# Altium integrated library NSC Temperature Sensor.IntLib: 347 symbols (part 2 of 9)
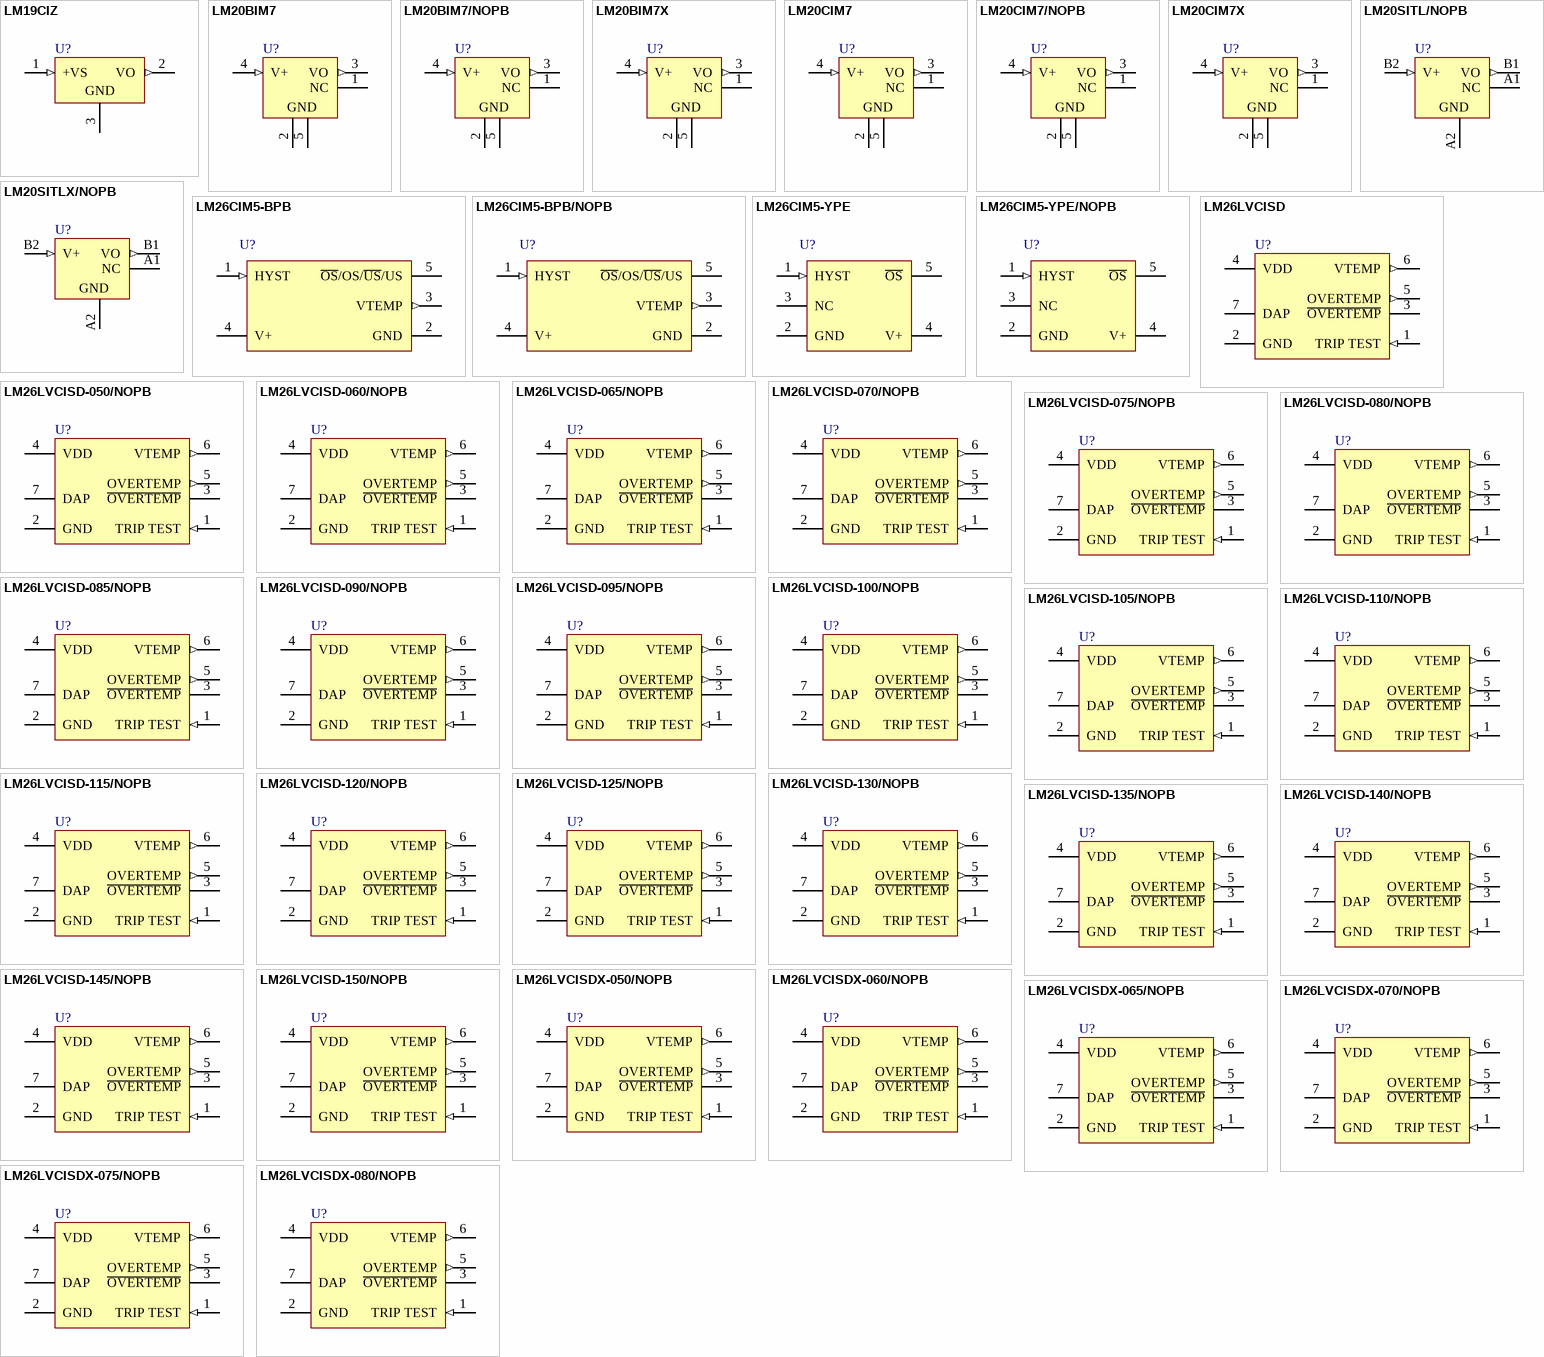
[diagram p10: symbols LM19CIZ to LM26LVCISDX-080/NOPB]

## LM26LVCISDX-080/NOPB
designator U?
1.6V Factory Preset Temperature Switch and Temperature Sensor, 6-pin LLP, Pb-Free; PartNumber: LM26LVCISDX-080/NOPB; Manufacturer: National Semiconductor; PackageTopMarking: XTT*080; PowerWise: Y; CompType: Temp Sensor IC; Published: 1-Mar-2010; DatasheetVersion: May-2008; PackageVersion: revA, Nov-2003; PackageReference: SDB06A; Publisher: Altium Limited; PackageDescription: LLP, Plastic, Dual, 2.2 x 2.5 x 0.8mm Body, 6 Lead, 0.65mm Pitch, No Pullback; Supplier 1: Digi-Key; Supplier Part Number 1: LM26LVCISDX-080-ND; RoHS: Y; PinCount: 6; ComponentLink1Description: LM26LV Datasheet; ComponentLink1URL: http://www.national.com/ds/LM/LM26LV.pdf; ComponentLink2Description: LM26LV Web Page; ComponentLink2URL: http://www.national.com/pf/LM/LM26LV.html; ComponentLink3Description: SDB06A Package Page; ComponentLink3URL: http://www.national.com/packaging/folders/sdb06a.html
footprint SDB06A (SON, 6-Leads, Body 2.2x2.5mm, Pitch 0.65mm, NSC Recommended (SC-70 Land))
pins: 1 TRIP TEST (in), 2 GND (power) "Ground", 3 ~{OVERTEMP} (oc), 4 VDD (power), 5 OVERTEMP (out), 6 VTEMP (out), 7 DAP (power) "Ground"

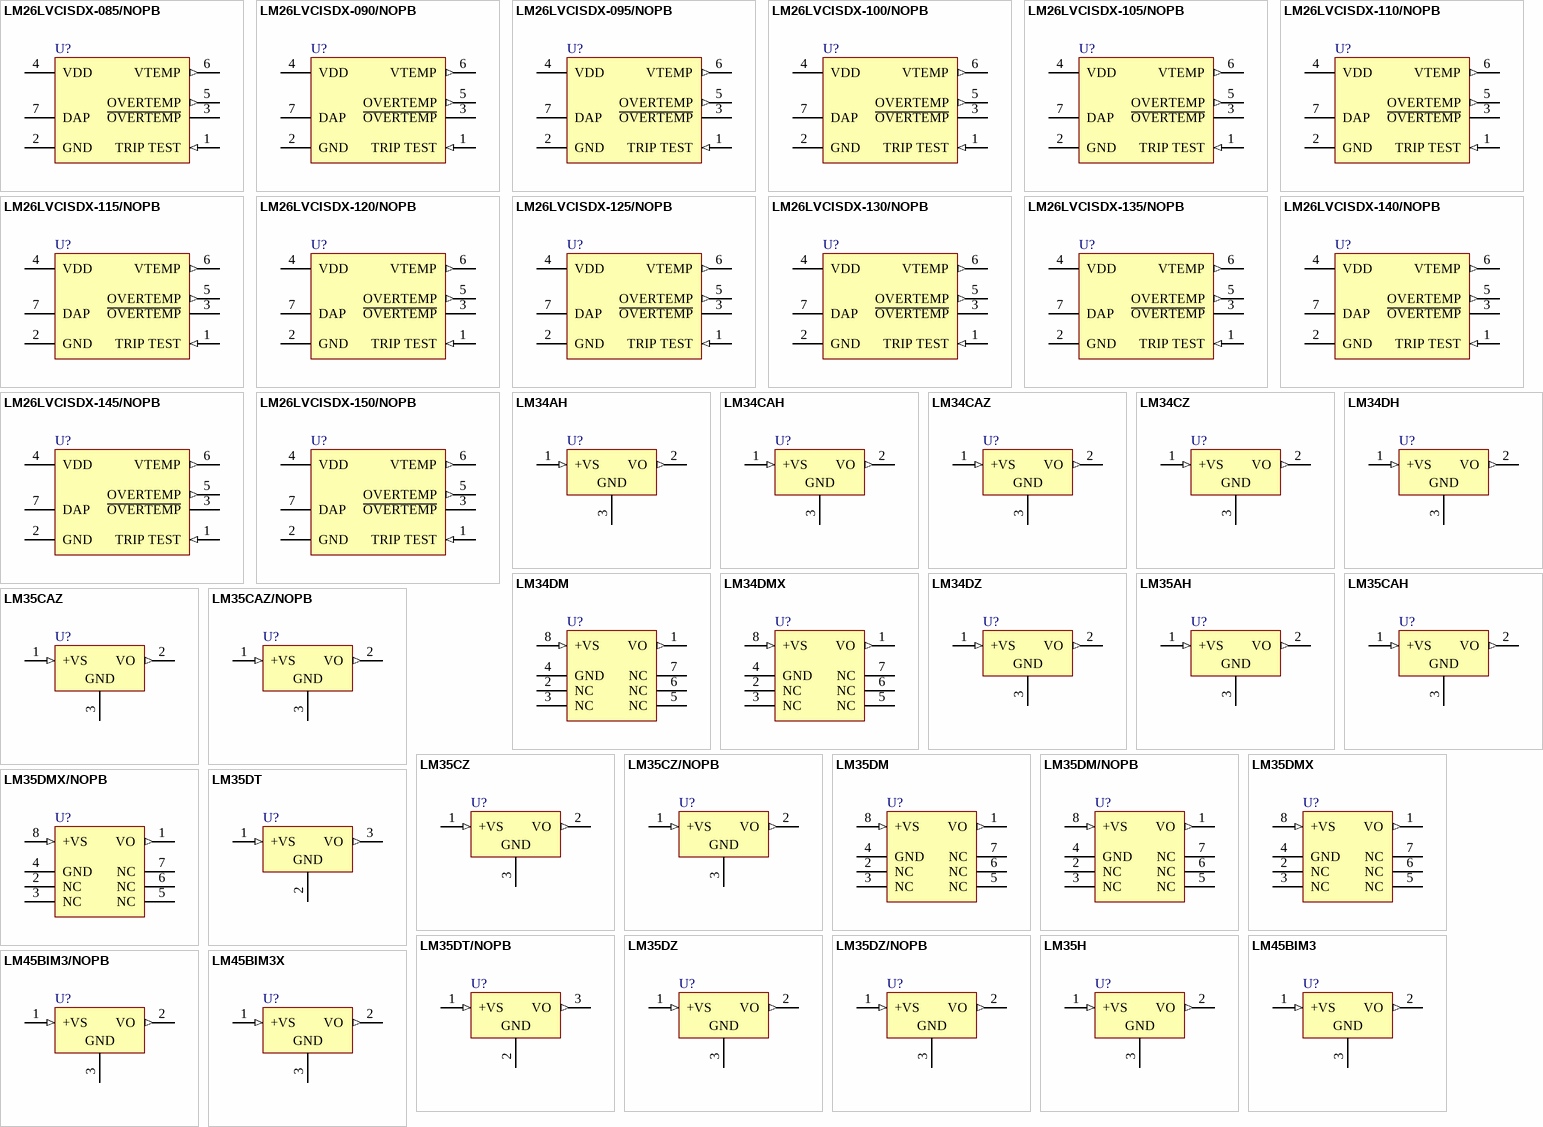
[diagram p1: symbols LM26LVCISDX-085/NOPB to LM45BIM3X]

## LM26LVCISDX-085/NOPB
designator U?
1.6V Factory Preset Temperature Switch and Temperature Sensor, 6-pin LLP, Pb-Free; PartNumber: LM26LVCISDX-085/NOPB; Manufacturer: National Semiconductor; PackageTopMarking: XTT*085; PowerWise: Y; CompType: Temp Sensor IC; Published: 1-Mar-2010; DatasheetVersion: May-2008; PackageVersion: revA, Nov-2003; PackageReference: SDB06A; Publisher: Altium Limited; PackageDescription: LLP, Plastic, Dual, 2.2 x 2.5 x 0.8mm Body, 6 Lead, 0.65mm Pitch, No Pullback; Supplier 1: Digi-Key; Supplier Part Number 1: LM26LVCISDX-085-ND; RoHS: Y; PinCount: 6; ComponentLink1Description: LM26LV Datasheet; ComponentLink1URL: http://www.national.com/ds/LM/LM26LV.pdf; ComponentLink2Description: LM26LV Web Page; ComponentLink2URL: http://www.national.com/pf/LM/LM26LV.html; ComponentLink3Description: SDB06A Package Page; ComponentLink3URL: http://www.national.com/packaging/folders/sdb06a.html
footprint SDB06A (SON, 6-Leads, Body 2.2x2.5mm, Pitch 0.65mm, NSC Recommended (SC-70 Land))
pins: 1 TRIP TEST (in), 2 GND (power) "Ground", 3 ~{OVERTEMP} (oc), 4 VDD (power), 5 OVERTEMP (out), 6 VTEMP (out), 7 DAP (power) "Ground"

## LM26LVCISDX-090/NOPB
designator U?
1.6V Factory Preset Temperature Switch and Temperature Sensor, 6-pin LLP, Pb-Free; PartNumber: LM26LVCISDX-090/NOPB; Manufacturer: National Semiconductor; PackageTopMarking: XTT*090; PowerWise: Y; CompType: Temp Sensor IC; Published: 1-Mar-2010; DatasheetVersion: May-2008; PackageVersion: revA, Nov-2003; PackageReference: SDB06A; Publisher: Altium Limited; PackageDescription: LLP, Plastic, Dual, 2.2 x 2.5 x 0.8mm Body, 6 Lead, 0.65mm Pitch, No Pullback; Supplier 1: Digi-Key; Supplier Part Number 1: LM26LVCISDX-090-ND; RoHS: Y; PinCount: 6; ComponentLink1Description: LM26LV Datasheet; ComponentLink1URL: http://www.national.com/ds/LM/LM26LV.pdf; ComponentLink2Description: LM26LV Web Page; ComponentLink2URL: http://www.national.com/pf/LM/LM26LV.html; ComponentLink3Description: SDB06A Package Page; ComponentLink3URL: http://www.national.com/packaging/folders/sdb06a.html
footprint SDB06A (SON, 6-Leads, Body 2.2x2.5mm, Pitch 0.65mm, NSC Recommended (SC-70 Land))
pins: 1 TRIP TEST (in), 2 GND (power) "Ground", 3 ~{OVERTEMP} (oc), 4 VDD (power), 5 OVERTEMP (out), 6 VTEMP (out), 7 DAP (power) "Ground"

## LM26LVCISDX-095/NOPB
designator U?
1.6V Factory Preset Temperature Switch and Temperature Sensor, 6-pin LLP, Pb-Free; PartNumber: LM26LVCISDX-095/NOPB; Manufacturer: National Semiconductor; PackageTopMarking: XTT*095; PowerWise: Y; CompType: Temp Sensor IC; Published: 1-Mar-2010; DatasheetVersion: May-2008; PackageVersion: revA, Nov-2003; PackageReference: SDB06A; Publisher: Altium Limited; PackageDescription: LLP, Plastic, Dual, 2.2 x 2.5 x 0.8mm Body, 6 Lead, 0.65mm Pitch, No Pullback; Supplier 1: Digi-Key; Supplier Part Number 1: LM26LVCISDX-095-ND; RoHS: Y; PinCount: 6; ComponentLink1Description: LM26LV Datasheet; ComponentLink1URL: http://www.national.com/ds/LM/LM26LV.pdf; ComponentLink2Description: LM26LV Web Page; ComponentLink2URL: http://www.national.com/pf/LM/LM26LV.html; ComponentLink3Description: SDB06A Package Page; ComponentLink3URL: http://www.national.com/packaging/folders/sdb06a.html
footprint SDB06A (SON, 6-Leads, Body 2.2x2.5mm, Pitch 0.65mm, NSC Recommended (SC-70 Land))
pins: 1 TRIP TEST (in), 2 GND (power) "Ground", 3 ~{OVERTEMP} (oc), 4 VDD (power), 5 OVERTEMP (out), 6 VTEMP (out), 7 DAP (power) "Ground"

## LM26LVCISDX-100/NOPB
designator U?
1.6V Factory Preset Temperature Switch and Temperature Sensor, 6-pin LLP, Pb-Free; PartNumber: LM26LVCISDX-100/NOPB; Manufacturer: National Semiconductor; PackageTopMarking: XTT*100; PowerWise: Y; CompType: Temp Sensor IC; Published: 1-Mar-2010; DatasheetVersion: May-2008; PackageVersion: revA, Nov-2003; PackageReference: SDB06A; Publisher: Altium Limited; PackageDescription: LLP, Plastic, Dual, 2.2 x 2.5 x 0.8mm Body, 6 Lead, 0.65mm Pitch, No Pullback; Supplier 1: Digi-Key; Supplier Part Number 1: LM26LVCISDX-100-ND; RoHS: Y; PinCount: 6; ComponentLink1Description: LM26LV Datasheet; ComponentLink1URL: http://www.national.com/ds/LM/LM26LV.pdf; ComponentLink2Description: LM26LV Web Page; ComponentLink2URL: http://www.national.com/pf/LM/LM26LV.html; ComponentLink3Description: SDB06A Package Page; ComponentLink3URL: http://www.national.com/packaging/folders/sdb06a.html
footprint SDB06A (SON, 6-Leads, Body 2.2x2.5mm, Pitch 0.65mm, NSC Recommended (SC-70 Land))
pins: 1 TRIP TEST (in), 2 GND (power) "Ground", 3 ~{OVERTEMP} (oc), 4 VDD (power), 5 OVERTEMP (out), 6 VTEMP (out), 7 DAP (power) "Ground"

## LM26LVCISDX-105/NOPB
designator U?
1.6V Factory Preset Temperature Switch and Temperature Sensor, 6-pin LLP, Pb-Free; PartNumber: LM26LVCISDX-105/NOPB; Manufacturer: National Semiconductor; PackageTopMarking: XTT*105; PowerWise: Y; CompType: Temp Sensor IC; Published: 1-Mar-2010; DatasheetVersion: May-2008; PackageVersion: revA, Nov-2003; PackageReference: SDB06A; Publisher: Altium Limited; PackageDescription: LLP, Plastic, Dual, 2.2 x 2.5 x 0.8mm Body, 6 Lead, 0.65mm Pitch, No Pullback; Supplier 1: Digi-Key; Supplier Part Number 1: LM26LVCISDX-105-ND; RoHS: Y; PinCount: 6; ComponentLink1Description: LM26LV Datasheet; ComponentLink1URL: http://www.national.com/ds/LM/LM26LV.pdf; ComponentLink2Description: LM26LV Web Page; ComponentLink2URL: http://www.national.com/pf/LM/LM26LV.html; ComponentLink3Description: SDB06A Package Page; ComponentLink3URL: http://www.national.com/packaging/folders/sdb06a.html
footprint SDB06A (SON, 6-Leads, Body 2.2x2.5mm, Pitch 0.65mm, NSC Recommended (SC-70 Land))
pins: 1 TRIP TEST (in), 2 GND (power) "Ground", 3 ~{OVERTEMP} (oc), 4 VDD (power), 5 OVERTEMP (out), 6 VTEMP (out), 7 DAP (power) "Ground"

## LM26LVCISDX-110/NOPB
designator U?
1.6V Factory Preset Temperature Switch and Temperature Sensor, 6-pin LLP, Pb-Free; PartNumber: LM26LVCISDX-110/NOPB; Manufacturer: National Semiconductor; PackageTopMarking: XTT*110; PowerWise: Y; CompType: Temp Sensor IC; Published: 1-Mar-2010; DatasheetVersion: May-2008; PackageVersion: revA, Nov-2003; PackageReference: SDB06A; Publisher: Altium Limited; PackageDescription: LLP, Plastic, Dual, 2.2 x 2.5 x 0.8mm Body, 6 Lead, 0.65mm Pitch, No Pullback; Supplier 1: Digi-Key; Supplier Part Number 1: LM26LVCISDX-110-ND; RoHS: Y; PinCount: 6; ComponentLink1Description: LM26LV Datasheet; ComponentLink1URL: http://www.national.com/ds/LM/LM26LV.pdf; ComponentLink2Description: LM26LV Web Page; ComponentLink2URL: http://www.national.com/pf/LM/LM26LV.html; ComponentLink3Description: SDB06A Package Page; ComponentLink3URL: http://www.national.com/packaging/folders/sdb06a.html
footprint SDB06A (SON, 6-Leads, Body 2.2x2.5mm, Pitch 0.65mm, NSC Recommended (SC-70 Land))
pins: 1 TRIP TEST (in), 2 GND (power) "Ground", 3 ~{OVERTEMP} (oc), 4 VDD (power), 5 OVERTEMP (out), 6 VTEMP (out), 7 DAP (power) "Ground"

## LM26LVCISDX-115/NOPB
designator U?
1.6V Factory Preset Temperature Switch and Temperature Sensor, 6-pin LLP, Pb-Free; PartNumber: LM26LVCISDX-115/NOPB; Manufacturer: National Semiconductor; PackageTopMarking: XTT*115; PowerWise: Y; CompType: Temp Sensor IC; Published: 1-Mar-2010; DatasheetVersion: May-2008; PackageVersion: revA, Nov-2003; PackageReference: SDB06A; Publisher: Altium Limited; PackageDescription: LLP, Plastic, Dual, 2.2 x 2.5 x 0.8mm Body, 6 Lead, 0.65mm Pitch, No Pullback; Supplier 1: Digi-Key; Supplier Part Number 1: LM26LVCISDX-115-ND; RoHS: Y; PinCount: 6; ComponentLink1Description: LM26LV Datasheet; ComponentLink1URL: http://www.national.com/ds/LM/LM26LV.pdf; ComponentLink2Description: LM26LV Web Page; ComponentLink2URL: http://www.national.com/pf/LM/LM26LV.html; ComponentLink3Description: SDB06A Package Page; ComponentLink3URL: http://www.national.com/packaging/folders/sdb06a.html
footprint SDB06A (SON, 6-Leads, Body 2.2x2.5mm, Pitch 0.65mm, NSC Recommended (SC-70 Land))
pins: 1 TRIP TEST (in), 2 GND (power) "Ground", 3 ~{OVERTEMP} (oc), 4 VDD (power), 5 OVERTEMP (out), 6 VTEMP (out), 7 DAP (power) "Ground"

## LM26LVCISDX-120/NOPB
designator U?
1.6V Factory Preset Temperature Switch and Temperature Sensor, 6-pin LLP, Pb-Free; PartNumber: LM26LVCISDX-120/NOPB; Manufacturer: National Semiconductor; PackageTopMarking: XTT*120; PowerWise: Y; CompType: Temp Sensor IC; Published: 1-Mar-2010; DatasheetVersion: May-2008; PackageVersion: revA, Nov-2003; PackageReference: SDB06A; Publisher: Altium Limited; PackageDescription: LLP, Plastic, Dual, 2.2 x 2.5 x 0.8mm Body, 6 Lead, 0.65mm Pitch, No Pullback; RoHS: Y; PinCount: 6; ComponentLink1Description: LM26LV Datasheet; ComponentLink1URL: http://www.national.com/ds/LM/LM26LV.pdf; ComponentLink2Description: LM26LV Web Page; ComponentLink2URL: http://www.national.com/pf/LM/LM26LV.html; ComponentLink3Description: SDB06A Package Page; ComponentLink3URL: http://www.national.com/packaging/folders/sdb06a.html
footprint SDB06A (SON, 6-Leads, Body 2.2x2.5mm, Pitch 0.65mm, NSC Recommended (SC-70 Land))
pins: 1 TRIP TEST (in), 2 GND (power) "Ground", 3 ~{OVERTEMP} (oc), 4 VDD (power), 5 OVERTEMP (out), 6 VTEMP (out), 7 DAP (power) "Ground"

## LM26LVCISDX-125/NOPB
designator U?
1.6V Factory Preset Temperature Switch and Temperature Sensor, 6-pin LLP, Pb-Free; PartNumber: LM26LVCISDX-125/NOPB; Manufacturer: National Semiconductor; PackageTopMarking: XTT*125; PowerWise: Y; CompType: Temp Sensor IC; Published: 1-Mar-2010; DatasheetVersion: May-2008; PackageVersion: revA, Nov-2003; PackageReference: SDB06A; Publisher: Altium Limited; PackageDescription: LLP, Plastic, Dual, 2.2 x 2.5 x 0.8mm Body, 6 Lead, 0.65mm Pitch, No Pullback; Supplier 1: Digi-Key; Supplier Part Number 1: LM26LVCISDX-125-ND; RoHS: Y; PinCount: 6; ComponentLink1Description: LM26LV Datasheet; ComponentLink1URL: http://www.national.com/ds/LM/LM26LV.pdf; ComponentLink2Description: LM26LV Web Page; ComponentLink2URL: http://www.national.com/pf/LM/LM26LV.html; ComponentLink3Description: SDB06A Package Page; ComponentLink3URL: http://www.national.com/packaging/folders/sdb06a.html
footprint SDB06A (SON, 6-Leads, Body 2.2x2.5mm, Pitch 0.65mm, NSC Recommended (SC-70 Land))
pins: 1 TRIP TEST (in), 2 GND (power) "Ground", 3 ~{OVERTEMP} (oc), 4 VDD (power), 5 OVERTEMP (out), 6 VTEMP (out), 7 DAP (power) "Ground"

## LM26LVCISDX-130/NOPB
designator U?
1.6V Factory Preset Temperature Switch and Temperature Sensor, 6-pin LLP, Pb-Free; PartNumber: LM26LVCISDX-130/NOPB; Manufacturer: National Semiconductor; PackageTopMarking: XTT*130; PowerWise: Y; CompType: Temp Sensor IC; Published: 1-Mar-2010; DatasheetVersion: May-2008; PackageVersion: revA, Nov-2003; PackageReference: SDB06A; Publisher: Altium Limited; PackageDescription: LLP, Plastic, Dual, 2.2 x 2.5 x 0.8mm Body, 6 Lead, 0.65mm Pitch, No Pullback; Supplier 1: Digi-Key; Supplier Part Number 1: LM26LVCISDX-130-ND; RoHS: Y; PinCount: 6; ComponentLink1Description: LM26LV Datasheet; ComponentLink1URL: http://www.national.com/ds/LM/LM26LV.pdf; ComponentLink2Description: LM26LV Web Page; ComponentLink2URL: http://www.national.com/pf/LM/LM26LV.html; ComponentLink3Description: SDB06A Package Page; ComponentLink3URL: http://www.national.com/packaging/folders/sdb06a.html
footprint SDB06A (SON, 6-Leads, Body 2.2x2.5mm, Pitch 0.65mm, NSC Recommended (SC-70 Land))
pins: 1 TRIP TEST (in), 2 GND (power) "Ground", 3 ~{OVERTEMP} (oc), 4 VDD (power), 5 OVERTEMP (out), 6 VTEMP (out), 7 DAP (power) "Ground"

## LM26LVCISDX-135/NOPB
designator U?
1.6V Factory Preset Temperature Switch and Temperature Sensor, 6-pin LLP, Pb-Free; PartNumber: LM26LVCISDX-135/NOPB; Manufacturer: National Semiconductor; PackageTopMarking: XTT*135; PowerWise: Y; CompType: Temp Sensor IC; Published: 1-Mar-2010; DatasheetVersion: May-2008; PackageVersion: revA, Nov-2003; PackageReference: SDB06A; Publisher: Altium Limited; PackageDescription: LLP, Plastic, Dual, 2.2 x 2.5 x 0.8mm Body, 6 Lead, 0.65mm Pitch, No Pullback; Supplier 1: Digi-Key; Supplier Part Number 1: LM26LVCISDX-135-ND; RoHS: Y; PinCount: 6; ComponentLink1Description: LM26LV Datasheet; ComponentLink1URL: http://www.national.com/ds/LM/LM26LV.pdf; ComponentLink2Description: LM26LV Web Page; ComponentLink2URL: http://www.national.com/pf/LM/LM26LV.html; ComponentLink3Description: SDB06A Package Page; ComponentLink3URL: http://www.national.com/packaging/folders/sdb06a.html
footprint SDB06A (SON, 6-Leads, Body 2.2x2.5mm, Pitch 0.65mm, NSC Recommended (SC-70 Land))
pins: 1 TRIP TEST (in), 2 GND (power) "Ground", 3 ~{OVERTEMP} (oc), 4 VDD (power), 5 OVERTEMP (out), 6 VTEMP (out), 7 DAP (power) "Ground"

## LM26LVCISDX-140/NOPB
designator U?
1.6V Factory Preset Temperature Switch and Temperature Sensor, 6-pin LLP, Pb-Free; PartNumber: LM26LVCISDX-140/NOPB; Manufacturer: National Semiconductor; PackageTopMarking: XTT*140; PowerWise: Y; CompType: Temp Sensor IC; Published: 1-Mar-2010; DatasheetVersion: May-2008; PackageVersion: revA, Nov-2003; PackageReference: SDB06A; Publisher: Altium Limited; PackageDescription: LLP, Plastic, Dual, 2.2 x 2.5 x 0.8mm Body, 6 Lead, 0.65mm Pitch, No Pullback; Supplier 1: Digi-Key; Supplier Part Number 1: LM26LVCISDX-140-ND; RoHS: Y; PinCount: 6; ComponentLink1Description: LM26LV Datasheet; ComponentLink1URL: http://www.national.com/ds/LM/LM26LV.pdf; ComponentLink2Description: LM26LV Web Page; ComponentLink2URL: http://www.national.com/pf/LM/LM26LV.html; ComponentLink3Description: SDB06A Package Page; ComponentLink3URL: http://www.national.com/packaging/folders/sdb06a.html
footprint SDB06A (SON, 6-Leads, Body 2.2x2.5mm, Pitch 0.65mm, NSC Recommended (SC-70 Land))
pins: 1 TRIP TEST (in), 2 GND (power) "Ground", 3 ~{OVERTEMP} (oc), 4 VDD (power), 5 OVERTEMP (out), 6 VTEMP (out), 7 DAP (power) "Ground"

## LM26LVCISDX-145/NOPB
designator U?
1.6V Factory Preset Temperature Switch and Temperature Sensor, 6-pin LLP, Pb-Free; PartNumber: LM26LVCISDX-145/NOPB; Manufacturer: National Semiconductor; PackageTopMarking: XTT*145; PowerWise: Y; CompType: Temp Sensor IC; Published: 1-Mar-2010; DatasheetVersion: May-2008; PackageVersion: revA, Nov-2003; PackageReference: SDB06A; Publisher: Altium Limited; PackageDescription: LLP, Plastic, Dual, 2.2 x 2.5 x 0.8mm Body, 6 Lead, 0.65mm Pitch, No Pullback; Supplier 1: Digi-Key; Supplier Part Number 1: LM26LVCISDX-145-ND; RoHS: Y; PinCount: 6; ComponentLink1Description: LM26LV Datasheet; ComponentLink1URL: http://www.national.com/ds/LM/LM26LV.pdf; ComponentLink2Description: LM26LV Web Page; ComponentLink2URL: http://www.national.com/pf/LM/LM26LV.html; ComponentLink3Description: SDB06A Package Page; ComponentLink3URL: http://www.national.com/packaging/folders/sdb06a.html
footprint SDB06A (SON, 6-Leads, Body 2.2x2.5mm, Pitch 0.65mm, NSC Recommended (SC-70 Land))
pins: 1 TRIP TEST (in), 2 GND (power) "Ground", 3 ~{OVERTEMP} (oc), 4 VDD (power), 5 OVERTEMP (out), 6 VTEMP (out), 7 DAP (power) "Ground"

## LM26LVCISDX-150/NOPB
designator U?
1.6V Factory Preset Temperature Switch and Temperature Sensor, 6-pin LLP, Pb-Free; PartNumber: LM26LVCISDX-150/NOPB; Manufacturer: National Semiconductor; PackageTopMarking: XTT*150; PowerWise: Y; CompType: Temp Sensor IC; Published: 1-Mar-2010; DatasheetVersion: May-2008; PackageVersion: revA, Nov-2003; PackageReference: SDB06A; Publisher: Altium Limited; PackageDescription: LLP, Plastic, Dual, 2.2 x 2.5 x 0.8mm Body, 6 Lead, 0.65mm Pitch, No Pullback; Supplier 1: Digi-Key; Supplier Part Number 1: LM26LVCISDX-150-ND; RoHS: Y; PinCount: 6; ComponentLink1Description: LM26LV Datasheet; ComponentLink1URL: http://www.national.com/ds/LM/LM26LV.pdf; ComponentLink2Description: LM26LV Web Page; ComponentLink2URL: http://www.national.com/pf/LM/LM26LV.html; ComponentLink3Description: SDB06A Package Page; ComponentLink3URL: http://www.national.com/packaging/folders/sdb06a.html
footprint SDB06A (SON, 6-Leads, Body 2.2x2.5mm, Pitch 0.65mm, NSC Recommended (SC-70 Land))
pins: 1 TRIP TEST (in), 2 GND (power) "Ground", 3 ~{OVERTEMP} (oc), 4 VDD (power), 5 OVERTEMP (out), 6 VTEMP (out), 7 DAP (power) "Ground"

## LM34AH
designator U?
Precision Fahrenheit Temperature Sensor, 3-pin TO-46; PartNumber: LM34AH; Manufacturer: National Semiconductor; PackageTopMarking: NSXYTTE# LM34AH; PowerWise: N; CompType: Temp Sensor IC; High-Reliability: Y; Published: 4-Dec-2008; DatasheetVersion: Nov-2000; PackageVersion: revF, Apr-2002; PackageReference: H03H; Publisher: Altium Limited; PackageDescription: Metal Can, TO-46, 3 Lead, .100in Dia, P.C.; RoHS: N; PinCount: 3; Code_JEDEC: TO-46; ComponentLink1Description: LM34 Datasheet; ComponentLink1URL: http://www.national.com/ds/LM/LM34.pdf; ComponentLink2Description: LM34 Web Page; ComponentLink2URL: http://www.national.com/pf/LM/LM34.html; ComponentLink3Description: H03H Package Page; ComponentLink3URL: http://www.national.com/packaging/folders/h03h.html
footprint H03H (Can; 3 Leads; Pin Circle Dia. 2.54 mm; Lead Dia. 0.48 mm (max))
pins: 1 +VS (in), 2 VO (out), 3 GND (power)

## LM34CAH
designator U?
Precision Fahrenheit Temperature Sensor, 3-pin TO-46; PartNumber: LM34CAH; Manufacturer: National Semiconductor; PackageTopMarking: NSXYTTE# LM34CAH; PowerWise: N; CompType: Temp Sensor IC; High-Reliability: Y; Published: 4-Dec-2008; DatasheetVersion: Nov-2000; PackageVersion: revF, Apr-2002; PackageReference: H03H; Publisher: Altium Limited; PackageDescription: Metal Can, TO-46, 3 Lead, .100in Dia, P.C.; RoHS: N; PinCount: 3; Code_JEDEC: TO-46; ComponentLink1Description: LM34 Datasheet; ComponentLink1URL: http://www.national.com/ds/LM/LM34.pdf; ComponentLink2Description: LM34 Web Page; ComponentLink2URL: http://www.national.com/pf/LM/LM34.html; ComponentLink3Description: H03H Package Page; ComponentLink3URL: http://www.national.com/packaging/folders/h03h.html
footprint H03H (Can; 3 Leads; Pin Circle Dia. 2.54 mm; Lead Dia. 0.48 mm (max))
pins: 1 +VS (in), 2 VO (out), 3 GND (power)

## LM34CAZ
designator U?
Precision Fahrenheit Temperature Sensor, 3-pin TO-92; PartNumber: LM34CAZ; Manufacturer: National Semiconductor; PackageTopMarking: NSXYTT*LM34*CAZ; PowerWise: N; CompType: Temp Sensor IC; Published: 4-Dec-2008; LatestRevisionDate: 15-Jul-2009; LatestRevisionNote: Sch pins 1 & 3 reversed.; DatasheetVersion: Nov-2000; PackageVersion: revG, Sep-2000; PackageReference: Z03A; Publisher: Altium Limited; PackageDescription: TO-92, Molded, 3 Lead; Supplier 1: Farnell; Supplier Part Number 1: 9494510; RoHS: N; PinCount: 3; Code_JEDEC: TO-226-AA; ComponentLink1Description: LM34 Datasheet; ComponentLink1URL: http://www.national.com/ds/LM/LM34.pdf; ComponentLink2Description: LM34 Web Page; ComponentLink2URL: http://www.national.com/pf/LM/LM34.html; ComponentLink3Description: Z03A Package Page; ComponentLink3URL: http://www.national.com/packaging/folders/z03a.html
footprint Z03A (TO, Flat Index; 3 In-Line, Axial Leads; Body Dia. 5mm; Leads 0.55 x 0.50 mm (max))
pins: 1 +VS (in), 2 VO (out), 3 GND (power)

## LM34CZ
designator U?
Precision Fahrenheit Temperature Sensor, 3-pin TO-92; PartNumber: LM34CZ; Manufacturer: National Semiconductor; PackageTopMarking: NSXYTT*LM34*CZ; PowerWise: N; CompType: Temp Sensor IC; Published: 4-Dec-2008; LatestRevisionDate: 15-Jul-2009; LatestRevisionNote: Sch pins 1 & 3 reversed.; DatasheetVersion: Nov-2000; PackageVersion: revG, Sep-2000; PackageReference: Z03A; Publisher: Altium Limited; PackageDescription: TO-92, Molded, 3 Lead; Supplier 1: Farnell; Supplier Part Number 1: 1215187; RoHS: N; PinCount: 3; Code_JEDEC: TO-226-AA; ComponentLink1Description: LM34 Datasheet; ComponentLink1URL: http://www.national.com/ds/LM/LM34.pdf; ComponentLink2Description: LM34 Web Page; ComponentLink2URL: http://www.national.com/pf/LM/LM34.html; ComponentLink3Description: Z03A Package Page; ComponentLink3URL: http://www.national.com/packaging/folders/z03a.html
footprint Z03A (TO, Flat Index; 3 In-Line, Axial Leads; Body Dia. 5mm; Leads 0.55 x 0.50 mm (max))
pins: 1 +VS (in), 2 VO (out), 3 GND (power)

## LM34DH
designator U?
Precision Fahrenheit Temperature Sensor, 3-pin TO-46; PartNumber: LM34DH; Manufacturer: National Semiconductor; PackageTopMarking: NSXYTTE# LM34DH; PowerWise: N; CompType: Temp Sensor IC; High-Reliability: Y; Published: 4-Dec-2008; DatasheetVersion: Nov-2000; PackageVersion: revF, Apr-2002; PackageReference: H03H; Publisher: Altium Limited; PackageDescription: Metal Can, TO-46, 3 Lead, .100in Dia, P.C.; RoHS: N; PinCount: 3; Code_JEDEC: TO-46; ComponentLink1Description: LM34 Datasheet; ComponentLink1URL: http://www.national.com/ds/LM/LM34.pdf; ComponentLink2Description: LM34 Web Page; ComponentLink2URL: http://www.national.com/pf/LM/LM34.html; ComponentLink3Description: H03H Package Page; ComponentLink3URL: http://www.national.com/packaging/folders/h03h.html
footprint H03H (Can; 3 Leads; Pin Circle Dia. 2.54 mm; Lead Dia. 0.48 mm (max))
pins: 1 +VS (in), 2 VO (out), 3 GND (power)

## LM34DM
designator U?
Precision Fahrenheit Temperature Sensor, 8-pin Narrow SOIC; PartNumber: LM34DM; Manufacturer: National Semiconductor; PackageTopMarking: NSZXTT*LM34D*M; PowerWise: N; CompType: Temp Sensor IC; Published: 4-Dec-2008; DatasheetVersion: Nov-2000; PackageVersion: revM, May-2009; PackageReference: M08A; Publisher: Altium Limited; PackageDescription: SOIC Narrow, 4.9 x 3.9 x 1.45mm, 8 Lead, 1.27mm Pitch; RoHS: N; PinCount: 8; Code_JEDEC: MS-012-AA; Code_IPC: SOIC127P600-8; ComponentLink1Description: LM34 Datasheet; ComponentLink1URL: http://www.national.com/ds/LM/LM34.pdf; ComponentLink2Description: LM34 Web Page; ComponentLink2URL: http://www.national.com/pf/LM/LM34.html; ComponentLink3Description: M08A Package Page; ComponentLink3URL: http://www.national.com/packaging/folders/m08a.html
footprint M08A_N (SOIC, 8-Leads, Body 4.9x3.9mm, Pitch 1.27mm, IPC Medium Density)
footprint M08A_L (SOIC, 8-Leads, Body 4.9x3.9mm, Pitch 1.27mm, IPC High Density)
footprint M08A_M (SOIC, 8-Leads, Body 4.9x3.9mm, Pitch 1.27mm, IPC Low Density)
pins: 1 VO (out), 2 NC "Not Connected", 3 NC, 4 GND (power), 5 NC, 6 NC, 7 NC, 8 +VS (in)

## LM34DMX
designator U?
Precision Fahrenheit Temperature Sensor, 8-pin Narrow SOIC; PartNumber: LM34DMX; Manufacturer: National Semiconductor; PackageTopMarking: NSZXTT*LM34D*M; PowerWise: N; CompType: Temp Sensor IC; Published: 1-Mar-2010; DatasheetVersion: Nov-2000; PackageVersion: revM, May-2009; PackageReference: M08A; Publisher: Altium Limited; PackageDescription: SOIC Narrow, 4.9 x 3.9 x 1.45mm, 8 Lead, 1.27mm Pitch; RoHS: N; PinCount: 8; Code_JEDEC: MS-012-AA; Code_IPC: SOIC127P600-8; ComponentLink1Description: LM34 Datasheet; ComponentLink1URL: http://www.national.com/ds/LM/LM34.pdf; ComponentLink2Description: LM34 Web Page; ComponentLink2URL: http://www.national.com/pf/LM/LM34.html; ComponentLink3Description: M08A Package Page; ComponentLink3URL: http://www.national.com/packaging/folders/m08a.html
footprint M08A_N (SOIC, 8-Leads, Body 4.9x3.9mm, Pitch 1.27mm, IPC Medium Density)
footprint M08A_L (SOIC, 8-Leads, Body 4.9x3.9mm, Pitch 1.27mm, IPC High Density)
footprint M08A_M (SOIC, 8-Leads, Body 4.9x3.9mm, Pitch 1.27mm, IPC Low Density)
pins: 1 VO (out), 2 NC "Not Connected", 3 NC, 4 GND (power), 5 NC, 6 NC, 7 NC, 8 +VS (in)

## LM34DZ
designator U?
Precision Fahrenheit Temperature Sensor, 3-pin TO-92; PartNumber: LM34DZ; Manufacturer: National Semiconductor; PackageTopMarking: NSXYTT*LM34*DZ; PowerWise: N; CompType: Temp Sensor IC; Published: 4-Dec-2008; LatestRevisionDate: 15-Jul-2009; LatestRevisionNote: Sch pins 1 & 3 reversed.; DatasheetVersion: Nov-2000; PackageVersion: revG, Sep-2000; PackageReference: Z03A; Publisher: Altium Limited; PackageDescription: TO-92, Molded, 3 Lead; Supplier 1: Farnell; Supplier Part Number 1: 4398610; RoHS: N; PinCount: 3; Code_JEDEC: TO-226-AA; ComponentLink1Description: LM34 Datasheet; ComponentLink1URL: http://www.national.com/ds/LM/LM34.pdf; ComponentLink2Description: LM34 Web Page; ComponentLink2URL: http://www.national.com/pf/LM/LM34.html; ComponentLink3Description: Z03A Package Page; ComponentLink3URL: http://www.national.com/packaging/folders/z03a.html
footprint Z03A (TO, Flat Index; 3 In-Line, Axial Leads; Body Dia. 5mm; Leads 0.55 x 0.50 mm (max))
pins: 1 +VS (in), 2 VO (out), 3 GND (power)

## LM35AH
designator U?
Precision Centigrade Temperature Sensor, 3-pin TO-46; PartNumber: LM35AH; Manufacturer: National Semiconductor; PackageTopMarking: NSXYTTE# LM35AH; PowerWise: N; CompType: Temp Sensor IC; High-Reliability: Y; Published: 4-Dec-2008; DatasheetVersion: Nov-2000; PackageVersion: revF, Apr-2002; PackageReference: H03H; Publisher: Altium Limited; PackageDescription: Metal Can, TO-46, 3 Lead, .100in Dia, P.C.; Supplier 1: Farnell; Supplier Part Number 1: 1652472; RoHS: N; PinCount: 3; Code_JEDEC: TO-46; ComponentLink1Description: LM35 Datasheet; ComponentLink1URL: http://www.national.com/ds/LM/LM35.pdf; ComponentLink2Description: LM35 Web Page; ComponentLink2URL: http://www.national.com/pf/LM/LM35.html; ComponentLink3Description: H03H Package Page; ComponentLink3URL: http://www.national.com/packaging/folders/h03h.html
footprint H03H (Can; 3 Leads; Pin Circle Dia. 2.54 mm; Lead Dia. 0.48 mm (max))
pins: 1 +VS (in), 2 VO (out), 3 GND (power)

## LM35CAH
designator U?
Precision Centigrade Temperature Sensor, 3-pin TO-46; PartNumber: LM35CAH; Manufacturer: National Semiconductor; PackageTopMarking: NSXYTTE# LM35CAH; PowerWise: N; CompType: Temp Sensor IC; High-Reliability: Y; Published: 4-Dec-2008; DatasheetVersion: Nov-2000; PackageVersion: revF, Apr-2002; PackageReference: H03H; Publisher: Altium Limited; PackageDescription: Metal Can, TO-46, 3 Lead, .100in Dia, P.C.; Supplier 1: Farnell; Supplier Part Number 1: 1215189; RoHS: N; PinCount: 3; Code_JEDEC: TO-46; ComponentLink1Description: LM35 Datasheet; ComponentLink1URL: http://www.national.com/ds/LM/LM35.pdf; ComponentLink2Description: LM35 Web Page; ComponentLink2URL: http://www.national.com/pf/LM/LM35.html; ComponentLink3Description: H03H Package Page; ComponentLink3URL: http://www.national.com/packaging/folders/h03h.html
footprint H03H (Can; 3 Leads; Pin Circle Dia. 2.54 mm; Lead Dia. 0.48 mm (max))
pins: 1 +VS (in), 2 VO (out), 3 GND (power)

## LM35CAZ
designator U?
Precision Centigrade Temperature Sensor, 3-pin TO-92; PartNumber: LM35CAZ; Manufacturer: National Semiconductor; PackageTopMarking: NSXYTT*LM35*CAZ; PowerWise: N; CompType: Temp Sensor IC; Published: 4-Dec-2008; LatestRevisionDate: 15-Jul-2009; LatestRevisionNote: Sch pins 1 & 3 reversed.; DatasheetVersion: Nov-2000; PackageVersion: revG, Sep-2000; PackageReference: Z03A; Publisher: Altium Limited; PackageDescription: TO-92, Molded, 3 Lead; Supplier 1: Farnell; Supplier Part Number 1: 9494529; RoHS: N; PinCount: 3; Code_JEDEC: TO-226-AA; ComponentLink1Description: LM35 Datasheet; ComponentLink1URL: http://www.national.com/ds/LM/LM35.pdf; ComponentLink2Description: LM35 Web Page; ComponentLink2URL: http://www.national.com/pf/LM/LM35.html; ComponentLink3Description: Z03A Package Page; ComponentLink3URL: http://www.national.com/packaging/folders/z03a.html
footprint Z03A (TO, Flat Index; 3 In-Line, Axial Leads; Body Dia. 5mm; Leads 0.55 x 0.50 mm (max))
pins: 1 +VS (in), 2 VO (out), 3 GND (power)

## LM35CAZ/NOPB
designator U?
Precision Centigrade Temperature Sensor, 3-pin TO-92, Pb-Free; PartNumber: LM35CAZ/NOPB; Manufacturer: National Semiconductor; PackageTopMarking: NSXYTT*LM35*CAZ; PowerWise: N; CompType: Temp Sensor IC; Published: 1-Mar-2010; DatasheetVersion: Nov-2000; PackageVersion: revG, Sep-2000; PackageReference: Z03A; Publisher: Altium Limited; PackageDescription: TO-92, Molded, 3 Lead; Supplier 1: Digi-Key; Supplier Part Number 1: LM35CAZ-ND; Supplier 2: Farnell; Supplier Part Number 2: 1469232; RoHS: Y; PinCount: 3; Code_JEDEC: TO-226-AA; ComponentLink1Description: LM35 Datasheet; ComponentLink1URL: http://www.national.com/ds/LM/LM35.pdf; ComponentLink2Description: LM35 Web Page; ComponentLink2URL: http://www.national.com/pf/LM/LM35.html; ComponentLink3Description: Z03A Package Page; ComponentLink3URL: http://www.national.com/packaging/folders/z03a.html
footprint Z03A (TO, Flat Index; 3 In-Line, Axial Leads; Body Dia. 5mm; Leads 0.55 x 0.50 mm (max))
pins: 1 +VS (in), 2 VO (out), 3 GND (power)

## LM35CZ
designator U?
Precision Centigrade Temperature Sensor, 3-pin TO-92; PartNumber: LM35CZ; Manufacturer: National Semiconductor; PackageTopMarking: NSXYTT*LM35*CZ; PowerWise: N; CompType: Temp Sensor IC; Published: 4-Dec-2008; LatestRevisionDate: 15-Jul-2009; LatestRevisionNote: Sch pins 1 & 3 reversed.; DatasheetVersion: Nov-2000; PackageVersion: revG, Sep-2000; PackageReference: Z03A; Publisher: Altium Limited; PackageDescription: TO-92, Molded, 3 Lead; Supplier 1: Farnell; Supplier Part Number 1: 9488197; RoHS: N; PinCount: 3; Code_JEDEC: TO-226-AA; ComponentLink1Description: LM35 Datasheet; ComponentLink1URL: http://www.national.com/ds/LM/LM35.pdf; ComponentLink2Description: LM35 Web Page; ComponentLink2URL: http://www.national.com/pf/LM/LM35.html; ComponentLink3Description: Z03A Package Page; ComponentLink3URL: http://www.national.com/packaging/folders/z03a.html
footprint Z03A (TO, Flat Index; 3 In-Line, Axial Leads; Body Dia. 5mm; Leads 0.55 x 0.50 mm (max))
pins: 1 +VS (in), 2 VO (out), 3 GND (power)

## LM35CZ/NOPB
designator U?
Precision Centigrade Temperature Sensor, 3-pin TO-92, Pb-Free; PartNumber: LM35CZ/NOPB; Manufacturer: National Semiconductor; PackageTopMarking: NSXYTT*LM35*CZ; PowerWise: N; CompType: Temp Sensor IC; Published: 1-Mar-2010; DatasheetVersion: Nov-2000; PackageVersion: revG, Sep-2000; PackageReference: Z03A; Publisher: Altium Limited; PackageDescription: TO-92, Molded, 3 Lead; Supplier 1: Digi-Key; Supplier Part Number 1: LM35CZ-ND; Supplier 2: Farnell; Supplier Part Number 2: 1469233; RoHS: Y; PinCount: 3; Code_JEDEC: TO-226-AA; ComponentLink1Description: LM35 Datasheet; ComponentLink1URL: http://www.national.com/ds/LM/LM35.pdf; ComponentLink2Description: LM35 Web Page; ComponentLink2URL: http://www.national.com/pf/LM/LM35.html; ComponentLink3Description: Z03A Package Page; ComponentLink3URL: http://www.national.com/packaging/folders/z03a.html
footprint Z03A (TO, Flat Index; 3 In-Line, Axial Leads; Body Dia. 5mm; Leads 0.55 x 0.50 mm (max))
pins: 1 +VS (in), 2 VO (out), 3 GND (power)

## LM35DM
designator U?
Precision Centigrade Temperature Sensor, 8-pin Narrow SOIC; PartNumber: LM35DM; Manufacturer: National Semiconductor; PackageTopMarking: NSZXTT*LM35D*M; PowerWise: N; CompType: Temp Sensor IC; Published: 4-Dec-2008; DatasheetVersion: Nov-2000; PackageVersion: revM, May-2009; PackageReference: M08A; Publisher: Altium Limited; PackageDescription: SOIC Narrow, 4.9 x 3.9 x 1.45mm, 8 Lead, 1.27mm Pitch; Supplier 1: Farnell; Supplier Part Number 1: 9493930; RoHS: N; PinCount: 8; Code_JEDEC: MS-012-AA; Code_IPC: SOIC127P600-8; ComponentLink1Description: LM35 Datasheet; ComponentLink1URL: http://www.national.com/ds/LM/LM35.pdf; ComponentLink2Description: LM35 Web Page; ComponentLink2URL: http://www.national.com/pf/LM/LM35.html; ComponentLink3Description: M08A Package Page; ComponentLink3URL: http://www.national.com/packaging/folders/m08a.html
footprint M08A_N (SOIC, 8-Leads, Body 4.9x3.9mm, Pitch 1.27mm, IPC Medium Density)
footprint M08A_L (SOIC, 8-Leads, Body 4.9x3.9mm, Pitch 1.27mm, IPC High Density)
footprint M08A_M (SOIC, 8-Leads, Body 4.9x3.9mm, Pitch 1.27mm, IPC Low Density)
pins: 1 VO (out), 2 NC "Not Connected", 3 NC, 4 GND (power), 5 NC, 6 NC, 7 NC, 8 +VS (in)

## LM35DM/NOPB
designator U?
Precision Centigrade Temperature Sensor, 8-pin Narrow SOIC, Pb-Free; PartNumber: LM35DM/NOPB; Manufacturer: National Semiconductor; PackageTopMarking: NSZXTT*LM35D*M; PowerWise: N; CompType: Temp Sensor IC; Published: 1-Mar-2010; DatasheetVersion: Nov-2000; PackageVersion: revM, May-2009; PackageReference: M08A; Publisher: Altium Limited; PackageDescription: SOIC Narrow, 4.9 x 3.9 x 1.45mm, 8 Lead, 1.27mm Pitch; Supplier 1: Digi-Key; Supplier Part Number 1: LM35DM-ND; Supplier 2: Farnell; Supplier Part Number 2: 1469234; RoHS: Y; PinCount: 8; Code_JEDEC: MS-012-AA; Code_IPC: SOIC127P600-8; ComponentLink1Description: LM35 Datasheet; ComponentLink1URL: http://www.national.com/ds/LM/LM35.pdf; ComponentLink2Description: LM35 Web Page; ComponentLink2URL: http://www.national.com/pf/LM/LM35.html; ComponentLink3Description: M08A Package Page; ComponentLink3URL: http://www.national.com/packaging/folders/m08a.html
footprint M08A_N (SOIC, 8-Leads, Body 4.9x3.9mm, Pitch 1.27mm, IPC Medium Density)
footprint M08A_L (SOIC, 8-Leads, Body 4.9x3.9mm, Pitch 1.27mm, IPC High Density)
footprint M08A_M (SOIC, 8-Leads, Body 4.9x3.9mm, Pitch 1.27mm, IPC Low Density)
pins: 1 VO (out), 2 NC "Not Connected", 3 NC, 4 GND (power), 5 NC, 6 NC, 7 NC, 8 +VS (in)

## LM35DMX
designator U?
Precision Centigrade Temperature Sensor, 8-pin Narrow SOIC; PartNumber: LM35DMX; Manufacturer: National Semiconductor; PackageTopMarking: NSZXTT*LM35D*M; PowerWise: N; CompType: Temp Sensor IC; Published: 1-Mar-2010; DatasheetVersion: Nov-2000; PackageVersion: revM, May-2009; PackageReference: M08A; Publisher: Altium Limited; PackageDescription: SOIC Narrow, 4.9 x 3.9 x 1.45mm, 8 Lead, 1.27mm Pitch; RoHS: N; PinCount: 8; Code_JEDEC: MS-012-AA; Code_IPC: SOIC127P600-8; ComponentLink1Description: LM35 Datasheet; ComponentLink1URL: http://www.national.com/ds/LM/LM35.pdf; ComponentLink2Description: LM35 Web Page; ComponentLink2URL: http://www.national.com/pf/LM/LM35.html; ComponentLink3Description: M08A Package Page; ComponentLink3URL: http://www.national.com/packaging/folders/m08a.html
footprint M08A_N (SOIC, 8-Leads, Body 4.9x3.9mm, Pitch 1.27mm, IPC Medium Density)
footprint M08A_L (SOIC, 8-Leads, Body 4.9x3.9mm, Pitch 1.27mm, IPC High Density)
footprint M08A_M (SOIC, 8-Leads, Body 4.9x3.9mm, Pitch 1.27mm, IPC Low Density)
pins: 1 VO (out), 2 NC "Not Connected", 3 NC, 4 GND (power), 5 NC, 6 NC, 7 NC, 8 +VS (in)

## LM35DMX/NOPB
designator U?
Precision Centigrade Temperature Sensor, 8-pin Narrow SOIC, Pb-Free; PartNumber: LM35DMX/NOPB; Manufacturer: National Semiconductor; PackageTopMarking: NSZXTT*LM35D*M; PowerWise: N; CompType: Temp Sensor IC; Published: 1-Mar-2010; DatasheetVersion: Nov-2000; PackageVersion: revM, May-2009; PackageReference: M08A; Publisher: Altium Limited; PackageDescription: SOIC Narrow, 4.9 x 3.9 x 1.45mm, 8 Lead, 1.27mm Pitch; Supplier 1: Digi-Key; Supplier Part Number 1: LM35DMXTR-ND; Supplier 2: Digi-Key; Supplier Part Number 2: LM35DMXCT-ND; Supplier 3: Digi-Key; Supplier Part Number 3: LM35DMXDKR-ND; RoHS: Y; PinCount: 8; Code_JEDEC: MS-012-AA; Code_IPC: SOIC127P600-8; ComponentLink1Description: LM35 Datasheet; ComponentLink1URL: http://www.national.com/ds/LM/LM35.pdf; ComponentLink2Description: LM35 Web Page; ComponentLink2URL: http://www.national.com/pf/LM/LM35.html; ComponentLink3Description: M08A Package Page; ComponentLink3URL: http://www.national.com/packaging/folders/m08a.html
footprint M08A_N (SOIC, 8-Leads, Body 4.9x3.9mm, Pitch 1.27mm, IPC Medium Density)
footprint M08A_L (SOIC, 8-Leads, Body 4.9x3.9mm, Pitch 1.27mm, IPC High Density)
footprint M08A_M (SOIC, 8-Leads, Body 4.9x3.9mm, Pitch 1.27mm, IPC Low Density)
pins: 1 VO (out), 2 NC "Not Connected", 3 NC, 4 GND (power), 5 NC, 6 NC, 7 NC, 8 +VS (in)

## LM35DT
designator U?
Precision Centigrade Temperature Sensor, 3-pin TO-220; PartNumber: LM35DT; Manufacturer: National Semiconductor; PackageTopMarking: NSUZXYTTE#*LM35DT; PowerWise: N; CompType: Temp Sensor IC; Published: 4-Dec-2008; DatasheetVersion: Nov-2000; PackageVersion: revL, Jan-1993; PackageReference: TA03F; Publisher: Altium Limited; PackageDescription: TO-220, Molded, 3 Lead, Auto L/F; Supplier 1: Farnell; Supplier Part Number 1: 4316721; RoHS: N; PinCount: 3; Code_JEDEC: TO-220-AB; ComponentLink1Description: LM35 Datasheet; ComponentLink1URL: http://www.national.com/ds/LM/LM35.pdf; ComponentLink2Description: LM35 Web Page; ComponentLink2URL: http://www.national.com/pf/LM/LM35.html; ComponentLink3Description: TA03F Package Page; ComponentLink3URL: http://www.national.com/packaging/folders/ta03f.html
footprint TA03F (TO, Thru-Hole, Vertical, Heatsink Mounted; 3 In-Line Leads; Pitch 2.54 mm)
pins: 1 +VS (in), 2 GND (power), 3 VO (out)

## LM35DT/NOPB
designator U?
Precision Centigrade Temperature Sensor, 3-pin TO-220, Pb-Free; PartNumber: LM35DT/NOPB; Manufacturer: National Semiconductor; PackageTopMarking: NSUZXYTTE#*LM35DT; PowerWise: N; CompType: Temp Sensor IC; Published: 1-Mar-2010; DatasheetVersion: Nov-2000; PackageVersion: revL, Jan-1993; PackageReference: TA03F; Publisher: Altium Limited; PackageDescription: TO-220, Molded, 3 Lead, Auto L/F; Supplier 1: Digi-Key; Supplier Part Number 1: LM35DT-ND; Supplier 2: Farnell; Supplier Part Number 2: 1469235; RoHS: Y; PinCount: 3; Code_JEDEC: TO-220-AB; ComponentLink1Description: LM35 Datasheet; ComponentLink1URL: http://www.national.com/ds/LM/LM35.pdf; ComponentLink2Description: LM35 Web Page; ComponentLink2URL: http://www.national.com/pf/LM/LM35.html; ComponentLink3Description: TA03F Package Page; ComponentLink3URL: http://www.national.com/packaging/folders/ta03f.html
footprint TA03F (TO, Thru-Hole, Vertical, Heatsink Mounted; 3 In-Line Leads; Pitch 2.54 mm)
pins: 1 +VS (in), 2 GND (power), 3 VO (out)

## LM35DZ
designator U?
Precision Centigrade Temperature Sensor, 3-pin TO-92; PartNumber: LM35DZ; Manufacturer: National Semiconductor; PackageTopMarking: NSXYTT*LM35*DZ; PowerWise: N; CompType: Temp Sensor IC; Published: 4-Dec-2008; LatestRevisionDate: 15-Jul-2009; LatestRevisionNote: Sch pins 1 & 3 reversed.; DatasheetVersion: Nov-2000; PackageVersion: revG, Sep-2000; PackageReference: Z03A; Publisher: Altium Limited; PackageDescription: TO-92, Molded, 3 Lead; Supplier 1: Farnell; Supplier Part Number 1: 9488200; RoHS: N; PinCount: 3; Code_JEDEC: TO-226-AA; ComponentLink1Description: LM35 Datasheet; ComponentLink1URL: http://www.national.com/ds/LM/LM35.pdf; ComponentLink2Description: LM35 Web Page; ComponentLink2URL: http://www.national.com/pf/LM/LM35.html; ComponentLink3Description: Z03A Package Page; ComponentLink3URL: http://www.national.com/packaging/folders/z03a.html
footprint Z03A (TO, Flat Index; 3 In-Line, Axial Leads; Body Dia. 5mm; Leads 0.55 x 0.50 mm (max))
pins: 1 +VS (in), 2 VO (out), 3 GND (power)

## LM35DZ/NOPB
designator U?
Precision Centigrade Temperature Sensor, 3-pin TO-92, Pb-Free; PartNumber: LM35DZ/NOPB; Manufacturer: National Semiconductor; PackageTopMarking: NSXYTT*LM35*DZ; PowerWise: N; CompType: Temp Sensor IC; Published: 1-Mar-2010; DatasheetVersion: Nov-2000; PackageVersion: revG, Sep-2000; PackageReference: Z03A; Publisher: Altium Limited; PackageDescription: TO-92, Molded, 3 Lead; Supplier 1: Digi-Key; Supplier Part Number 1: LM35DZ-ND; Supplier 2: Farnell; Supplier Part Number 2: 1469236; RoHS: Y; PinCount: 3; Code_JEDEC: TO-226-AA; ComponentLink1Description: LM35 Datasheet; ComponentLink1URL: http://www.national.com/ds/LM/LM35.pdf; ComponentLink2Description: LM35 Web Page; ComponentLink2URL: http://www.national.com/pf/LM/LM35.html; ComponentLink3Description: Z03A Package Page; ComponentLink3URL: http://www.national.com/packaging/folders/z03a.html
footprint Z03A (TO, Flat Index; 3 In-Line, Axial Leads; Body Dia. 5mm; Leads 0.55 x 0.50 mm (max))
pins: 1 +VS (in), 2 VO (out), 3 GND (power)

## LM35H
designator U?
Precision Centigrade Temperature Sensor, 3-pin TO-46; PartNumber: LM35H; Manufacturer: National Semiconductor; PackageTopMarking: NSXYTTE# LM35H; PowerWise: N; CompType: Temp Sensor IC; High-Reliability: Y; Published: 4-Dec-2008; DatasheetVersion: Nov-2000; PackageVersion: revF, Apr-2002; PackageReference: H03H; Publisher: Altium Limited; PackageDescription: Metal Can, TO-46, 3 Lead, .100in Dia, P.C.; RoHS: N; PinCount: 3; Code_JEDEC: TO-46; ComponentLink1Description: LM35 Datasheet; ComponentLink1URL: http://www.national.com/ds/LM/LM35.pdf; ComponentLink2Description: LM35 Web Page; ComponentLink2URL: http://www.national.com/pf/LM/LM35.html; ComponentLink3Description: H03H Package Page; ComponentLink3URL: http://www.national.com/packaging/folders/h03h.html
footprint H03H (Can; 3 Leads; Pin Circle Dia. 2.54 mm; Lead Dia. 0.48 mm (max))
pins: 1 +VS (in), 2 VO (out), 3 GND (power)

## LM45BIM3
designator U?
Precision Centigrade Temperature Sensor, 3-pin SOT-23; PartNumber: LM45BIM3; Manufacturer: National Semiconductor; PackageTopMarking: T4B*XTT; PowerWise: N; CompType: Temp Sensor IC; Published: 4-Dec-2008; DatasheetVersion: Aug-2005; PackageVersion: revB, Mar-2003; PackageReference: MF03A; Publisher: Altium Limited; PackageDescription: Molded SOT-23, .115 x .051 x .037in Body, 3 Lead, .075 in Pitch; Supplier 1: Farnell; Supplier Part Number 1: 9779876; RoHS: N; PinCount: 3; ComponentLink1Description: LM45 Datasheet; ComponentLink1URL: http://www.national.com/ds/LM/LM45.pdf; ComponentLink2Description: LM45 Web Page; ComponentLink2URL: http://www.national.com/pf/LM/LM45.html; ComponentLink3Description: MF03A Package Page; ComponentLink3URL: http://www.national.com/packaging/folders/mf03a.html
footprint MF03A_N (SOT23, 3-Leads, Body 2.9x1.3mm, Pitch 0.95mm, Lead Span 2.4mm, IPC Medium Density)
footprint MF03A_L (SOT23, 3-Leads, Body 2.9x1.3mm, Pitch 0.95mm, Lead Span 2.4mm, IPC High Density)
footprint MF03A_M (SOT23, 3-Leads, Body 2.9x1.3mm, Pitch 0.95mm, Lead Span 2.4mm, IPC Low Density)
pins: 1 +VS (in), 2 VO (out), 3 GND (power)

## LM45BIM3/NOPB
designator U?
Precision Centigrade Temperature Sensor, 3-pin SOT-23, Pb-Free; PartNumber: LM45BIM3/NOPB; Manufacturer: National Semiconductor; PackageTopMarking: T4B*XTT; PowerWise: N; CompType: Temp Sensor IC; Published: 1-Mar-2010; DatasheetVersion: Aug-2005; PackageVersion: revB, Mar-2003; PackageReference: MF03A; Publisher: Altium Limited; PackageDescription: Molded SOT-23, .115 x .051 x .037in Body, 3 Lead, .075 in Pitch; Supplier 1: Digi-Key; Supplier Part Number 1: LM45BIM3TR-ND; Supplier 2: Digi-Key; Supplier Part Number 2: LM45BIM3CT-ND; Supplier 3: Digi-Key; Supplier Part Number 3: LM45BIM3DKR-ND; Supplier 4: Farnell; Supplier Part Number 4: 1149883; RoHS: Y; PinCount: 3; ComponentLink1Description: LM45 Datasheet; ComponentLink1URL: http://www.national.com/ds/LM/LM45.pdf; ComponentLink2Description: LM45 Web Page; ComponentLink2URL: http://www.national.com/pf/LM/LM45.html; ComponentLink3Description: MF03A Package Page; ComponentLink3URL: http://www.national.com/packaging/folders/mf03a.html
footprint MF03A_N (SOT23, 3-Leads, Body 2.9x1.3mm, Pitch 0.95mm, Lead Span 2.4mm, IPC Medium Density)
footprint MF03A_L (SOT23, 3-Leads, Body 2.9x1.3mm, Pitch 0.95mm, Lead Span 2.4mm, IPC High Density)
footprint MF03A_M (SOT23, 3-Leads, Body 2.9x1.3mm, Pitch 0.95mm, Lead Span 2.4mm, IPC Low Density)
pins: 1 +VS (in), 2 VO (out), 3 GND (power)

## LM45BIM3X
designator U?
Precision Centigrade Temperature Sensor, 3-pin SOT-23; PartNumber: LM45BIM3X; Manufacturer: National Semiconductor; PackageTopMarking: T4B*XTT; PowerWise: N; CompType: Temp Sensor IC; Published: 1-Mar-2010; DatasheetVersion: Aug-2005; PackageVersion: revB, Mar-2003; PackageReference: MF03A; Publisher: Altium Limited; PackageDescription: Molded SOT-23, .115 x .051 x .037in Body, 3 Lead, .075 in Pitch; RoHS: N; PinCount: 3; ComponentLink1Description: LM45 Datasheet; ComponentLink1URL: http://www.national.com/ds/LM/LM45.pdf; ComponentLink2Description: LM45 Web Page; ComponentLink2URL: http://www.national.com/pf/LM/LM45.html; ComponentLink3Description: MF03A Package Page; ComponentLink3URL: http://www.national.com/packaging/folders/mf03a.html
footprint MF03A_N (SOT23, 3-Leads, Body 2.9x1.3mm, Pitch 0.95mm, Lead Span 2.4mm, IPC Medium Density)
footprint MF03A_L (SOT23, 3-Leads, Body 2.9x1.3mm, Pitch 0.95mm, Lead Span 2.4mm, IPC High Density)
footprint MF03A_M (SOT23, 3-Leads, Body 2.9x1.3mm, Pitch 0.95mm, Lead Span 2.4mm, IPC Low Density)
pins: 1 +VS (in), 2 VO (out), 3 GND (power)

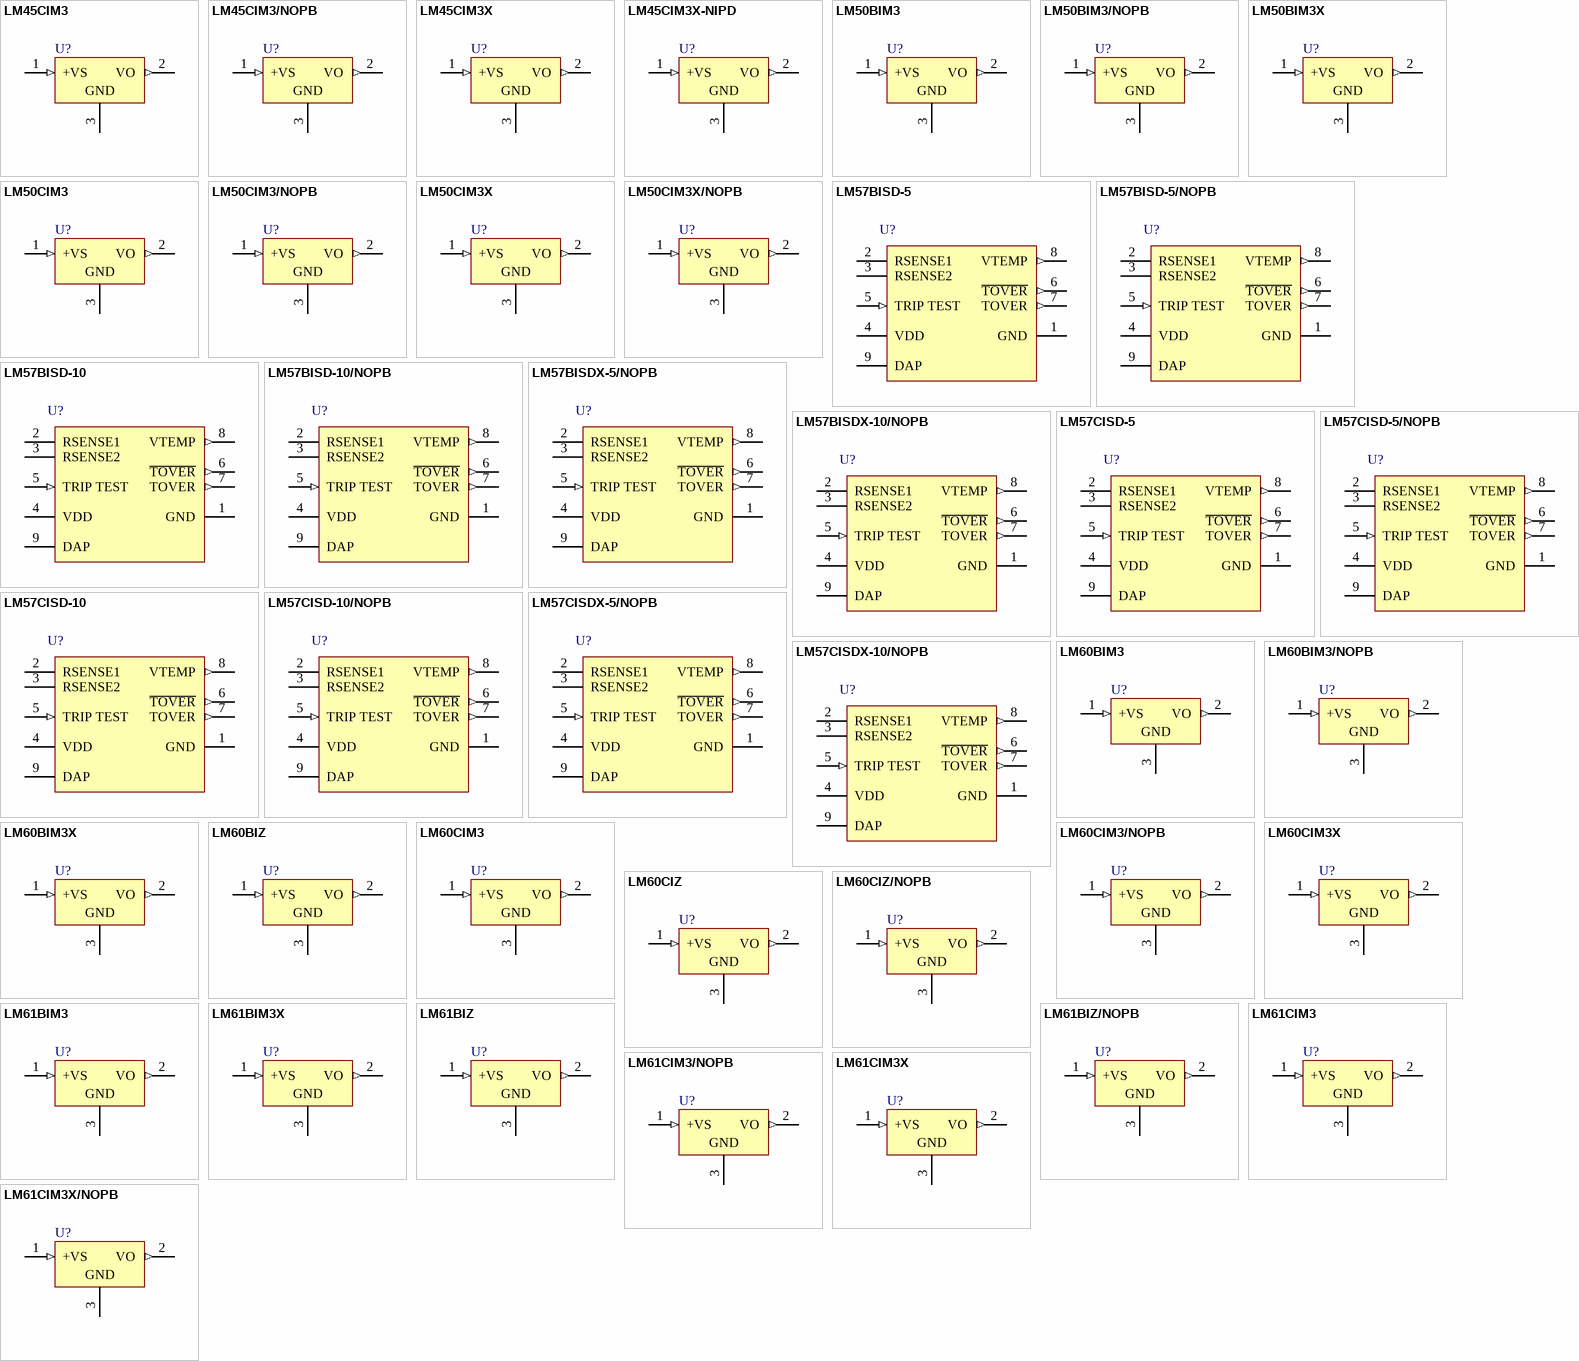
[diagram p2: symbols LM45CIM3 to LM61CIM3X/NOPB]

## LM45CIM3
designator U?
Precision Centigrade Temperature Sensor, 3-pin SOT-23; PartNumber: LM45CIM3; Manufacturer: National Semiconductor; PackageTopMarking: T4C*XTT; PowerWise: N; CompType: Temp Sensor IC; Published: 4-Dec-2008; DatasheetVersion: Aug-2005; PackageVersion: revB, Mar-2003; PackageReference: MF03A; Publisher: Altium Limited; PackageDescription: Molded SOT-23, .115 x .051 x .037in Body, 3 Lead, .075 in Pitch; Supplier 1: Farnell; Supplier Part Number 1: 9779310; RoHS: N; PinCount: 3; ComponentLink1Description: LM45 Datasheet; ComponentLink1URL: http://www.national.com/ds/LM/LM45.pdf; ComponentLink2Description: LM45 Web Page; ComponentLink2URL: http://www.national.com/pf/LM/LM45.html; ComponentLink3Description: MF03A Package Page; ComponentLink3URL: http://www.national.com/packaging/folders/mf03a.html
footprint MF03A_N (SOT23, 3-Leads, Body 2.9x1.3mm, Pitch 0.95mm, Lead Span 2.4mm, IPC Medium Density)
footprint MF03A_L (SOT23, 3-Leads, Body 2.9x1.3mm, Pitch 0.95mm, Lead Span 2.4mm, IPC High Density)
footprint MF03A_M (SOT23, 3-Leads, Body 2.9x1.3mm, Pitch 0.95mm, Lead Span 2.4mm, IPC Low Density)
pins: 1 +VS (in), 2 VO (out), 3 GND (power)

## LM45CIM3/NOPB
designator U?
Precision Centigrade Temperature Sensor, 3-pin SOT-23, Pb-Free; PartNumber: LM45CIM3/NOPB; Manufacturer: National Semiconductor; PackageTopMarking: T4C*XTT; PowerWise: N; CompType: Temp Sensor IC; Published: 1-Mar-2010; DatasheetVersion: Aug-2005; PackageVersion: revB, Mar-2003; PackageReference: MF03A; Publisher: Altium Limited; PackageDescription: Molded SOT-23, .115 x .051 x .037in Body, 3 Lead, .075 in Pitch; Supplier 1: Digi-Key; Supplier Part Number 1: LM45CIM3TR-ND; Supplier 2: Digi-Key; Supplier Part Number 2: LM45CIM3CT-ND; Supplier 3: Digi-Key; Supplier Part Number 3: LM45CIM3DKR-ND; Supplier 4: Farnell; Supplier Part Number 4: 1469239; RoHS: Y; PinCount: 3; ComponentLink1Description: LM45 Datasheet; ComponentLink1URL: http://www.national.com/ds/LM/LM45.pdf; ComponentLink2Description: LM45 Web Page; ComponentLink2URL: http://www.national.com/pf/LM/LM45.html; ComponentLink3Description: MF03A Package Page; ComponentLink3URL: http://www.national.com/packaging/folders/mf03a.html
footprint MF03A_N (SOT23, 3-Leads, Body 2.9x1.3mm, Pitch 0.95mm, Lead Span 2.4mm, IPC Medium Density)
footprint MF03A_L (SOT23, 3-Leads, Body 2.9x1.3mm, Pitch 0.95mm, Lead Span 2.4mm, IPC High Density)
footprint MF03A_M (SOT23, 3-Leads, Body 2.9x1.3mm, Pitch 0.95mm, Lead Span 2.4mm, IPC Low Density)
pins: 1 +VS (in), 2 VO (out), 3 GND (power)

## LM45CIM3X
designator U?
Precision Centigrade Temperature Sensor, 3-pin SOT-23; PartNumber: LM45CIM3X; Manufacturer: National Semiconductor; PackageTopMarking: T4C*XTT; PowerWise: N; CompType: Temp Sensor IC; Published: 1-Mar-2010; DatasheetVersion: Aug-2005; PackageVersion: revB, Mar-2003; PackageReference: MF03A; Publisher: Altium Limited; PackageDescription: Molded SOT-23, .115 x .051 x .037in Body, 3 Lead, .075 in Pitch; Supplier 1: Farnell; Supplier Part Number 1: 4467000; RoHS: N; PinCount: 3; ComponentLink1Description: LM45 Datasheet; ComponentLink1URL: http://www.national.com/ds/LM/LM45.pdf; ComponentLink2Description: LM45 Web Page; ComponentLink2URL: http://www.national.com/pf/LM/LM45.html; ComponentLink3Description: MF03A Package Page; ComponentLink3URL: http://www.national.com/packaging/folders/mf03a.html
footprint MF03A_N (SOT23, 3-Leads, Body 2.9x1.3mm, Pitch 0.95mm, Lead Span 2.4mm, IPC Medium Density)
footprint MF03A_L (SOT23, 3-Leads, Body 2.9x1.3mm, Pitch 0.95mm, Lead Span 2.4mm, IPC High Density)
footprint MF03A_M (SOT23, 3-Leads, Body 2.9x1.3mm, Pitch 0.95mm, Lead Span 2.4mm, IPC Low Density)
pins: 1 +VS (in), 2 VO (out), 3 GND (power)